# EAGLE library part 15EDGVC-3.5-11P (library doz)
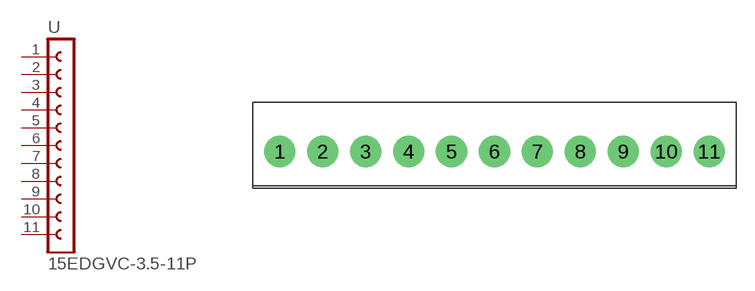
[diagram p10: symbol with the pads of 15EDGVC-3.5-11P; footprint 15EDGVC-3.5-11P]

Designator prefix -

## 15EDGVC-3.5-11P  [15EDGVC-3.5-11P]
1  1  pas
2  2  pas
3  3  pas
4  4  pas
5  5  pas
6  6  pas
7  7  pas
8  8  pas
9  9  pas
10  10  pas
11  11  pas

## Footprint 15EDGVC-3.5-11P (pad centres in mm)
drill 1.4 pad 2.54: 1 -17.478,-0.008; 2 -13.978,-0.008; 3 -10.478,-0.008; 4 -6.978,-0.008; 5 -3.478,-0.008; 6 0.022,-0.008; 7 3.522,-0.008; 8 7.022,-0.008; 9 10.522,-0.008; 10 14.022,-0.008; 11 17.522,-0.008